# Altium integrated library CRGP1206F1K5.IntLib: 1 symbol
Pins are listed as number, name and electrical type; pins without a type are passive.

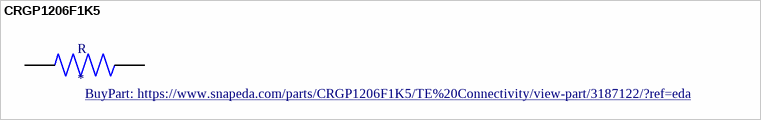
[diagram p0: symbol CRGP1206F1K5]

## CRGP1206F1K5
designator R
Fixed Resistor CRGP 1206 1K5 1%; MP: CRGP1206F1K5; MF: TE Connectivity; DigiKey-Purchase-URL: https://snapeda.com/shop?store=DigiKey&id=3187122; SnapEDA_Link: https://www.snapeda.com/parts/CRGP1206F1K5/TE%20Connectivity/view-part/3187122/?ref=snap; Mouser-Purchase-URL: https://snapeda.com/shop?store=Mouser&id=3187122; Value: *; Digi-Key_Part_Number: A130540CT-ND; Package: 3115 TE Connectivity; BuyPart: https://www.snapeda.com/parts/CRGP1206F1K5/TE%20Connectivity/view-part/3187122/?ref=eda
footprint RESC3115X65N
pins: 1, 2